# Altium integrated library Microchip Power Mgt MOSFET Driver.IntLib: 445 symbols (part 9 of 10)
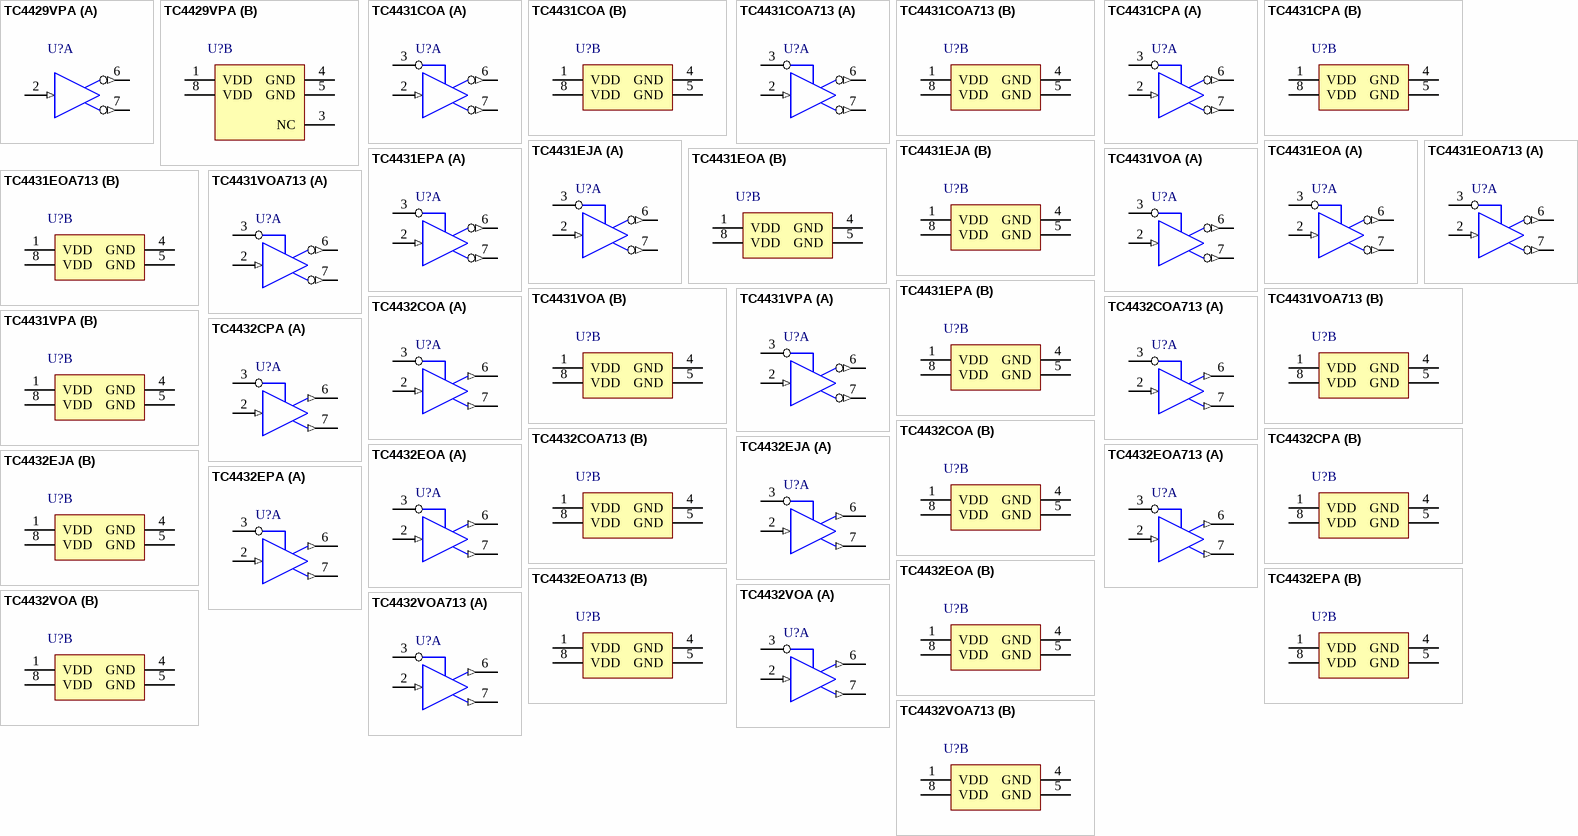
[diagram p36: symbols TC4429VPA to TC4432VOA713]

## TC4429VPA
designator U?
6A High-Speed MOSFET Driver, Inverting, Extended Temperature; Published: 29-Jan-2009; DatasheetVersion: rev C, Aug-2004; PackageVersion: revAW, Oct-2008; PackageReference: PDIP300-PA8; Publisher: Altium Limited; PackageDescription: 8-Lead Plastic Dual In-Line (PA) - 300 mil Body [PDIP]; Code_JEDEC: MS-001-BA; ComponentLink1Description: Manufacturer Link; ComponentLink1URL: http://www.microchip.com; ComponentLink2Description: Datasheet; ComponentLink2URL: http://ww1.microchip.com/downloads/en/DeviceDoc/21419c.pdf; ComponentLink3Description: Packaging Specification; ComponentLink3URL: http://ww1.microchip.com/downloads/en/PackagingSpec/00049AW.pdf
footprint PDIP300-PA8 (DIP, 8-Leads, Row Spacing 7.62mm, Pitch 2.54mm, Body 9.5x6.6mm)
part A pins: 2 IN (in), 6 ~{OUT} (out), 7 ~{OUT} (out)
part B pins: 1 VDD (power), 3 NC, 4 GND (power), 5 GND (power), 8 VDD (power)

## TC4431COA
designator U?
1.5A High-Speed 30V MOSFET Driver, Inverting, Commercial Temperature; Published: 29-Jan-2009; DatasheetVersion: rev D, Dec-2007; PackageVersion: revAW, Oct-2008; PackageReference: SOIC-OA8; Publisher: Altium Limited; PackageDescription: 8-Lead Plastic Small Outline (OA) - Narrow, 3.90mm Body [SOIC]; Code_IPC: SOIC127P600-8; ComponentLink1Description: Manufacturer Link; ComponentLink1URL: http://www.microchip.com; ComponentLink2Description: Datasheet; ComponentLink2URL: http://ww1.microchip.com/downloads/en/DeviceDoc/21424d.pdf; ComponentLink3Description: Packaging Specification; ComponentLink3URL: http://ww1.microchip.com/downloads/en/PackagingSpec/00049AW.pdf
footprint SOIC-OA8_N (SOIC, 8-Leads, Body 4.9x3.9mm, Pitch 1.27mm, IPC Medium Density)
footprint SOIC-OA8_L (SOIC, 8-Leads, Body 4.9x3.9mm, Pitch 1.27mm, IPC High Density)
footprint SOIC-OA8_M (SOIC, 8-Leads, Body 4.9x3.9mm, Pitch 1.27mm, IPC Low Density)
part A pins: 2 IN (in), 3 ~{LOCK DIS}, 6 ~{OUT} (out), 7 ~{OUT} (out)
part B pins: 1 VDD (power), 4 GND (power), 5 GND (power), 8 VDD (power)

## TC4431COA713
designator U?
1.5A High-Speed 30V MOSFET Driver, Inverting, Commercial Temperature, Tape and Reel; Published: 29-Jan-2009; DatasheetVersion: rev D, Dec-2007; PackageVersion: revAW, Oct-2008; PackageReference: SOIC-OA8; Publisher: Altium Limited; PackageDescription: 8-Lead Plastic Small Outline (OA) - Narrow, 3.90mm Body [SOIC]; Code_IPC: SOIC127P600-8; ComponentLink1Description: Manufacturer Link; ComponentLink1URL: http://www.microchip.com; ComponentLink2Description: Datasheet; ComponentLink2URL: http://ww1.microchip.com/downloads/en/DeviceDoc/21424d.pdf; ComponentLink3Description: Packaging Specification; ComponentLink3URL: http://ww1.microchip.com/downloads/en/PackagingSpec/00049AW.pdf
footprint SOIC-OA8_N (SOIC, 8-Leads, Body 4.9x3.9mm, Pitch 1.27mm, IPC Medium Density)
footprint SOIC-OA8_L (SOIC, 8-Leads, Body 4.9x3.9mm, Pitch 1.27mm, IPC High Density)
footprint SOIC-OA8_M (SOIC, 8-Leads, Body 4.9x3.9mm, Pitch 1.27mm, IPC Low Density)
part A pins: 2 IN (in), 3 ~{LOCK DIS}, 6 ~{OUT} (out), 7 ~{OUT} (out)
part B pins: 1 VDD (power), 4 GND (power), 5 GND (power), 8 VDD (power)

## TC4431CPA
designator U?
1.5A High-Speed 30V MOSFET Driver, Inverting, Commercial Temperature; Published: 29-Jan-2009; DatasheetVersion: rev D, Dec-2007; PackageVersion: revAW, Oct-2008; PackageReference: PDIP300-PA8; Publisher: Altium Limited; PackageDescription: 8-Lead Plastic Dual In-Line (PA) - 300 mil Body [PDIP]; Code_JEDEC: MS-001-BA; ComponentLink1Description: Manufacturer Link; ComponentLink1URL: http://www.microchip.com; ComponentLink2Description: Datasheet; ComponentLink2URL: http://ww1.microchip.com/downloads/en/DeviceDoc/21424d.pdf; ComponentLink3Description: Packaging Specification; ComponentLink3URL: http://ww1.microchip.com/downloads/en/PackagingSpec/00049AW.pdf
footprint PDIP300-PA8 (DIP, 8-Leads, Row Spacing 7.62mm, Pitch 2.54mm, Body 9.5x6.6mm)
part A pins: 2 IN (in), 3 ~{LOCK DIS}, 6 ~{OUT} (out), 7 ~{OUT} (out)
part B pins: 1 VDD (power), 4 GND (power), 5 GND (power), 8 VDD (power)

## TC4431EJA
designator U?
1.5A High-Speed 30V MOSFET Driver, Inverting, Industrial Temperature; Published: 29-Jan-2009; DatasheetVersion: rev D, Dec-2007; PackageVersion: revAW, Oct-2008; PackageReference: CERDIP300-JA8; Publisher: Altium Limited; PackageDescription: 8-Lead Ceramic Dual In-Line (JA) - 300mil Body [CERDIP]; ComponentLink1Description: Manufacturer Link; ComponentLink1URL: http://www.microchip.com; ComponentLink2Description: Datasheet; ComponentLink2URL: http://ww1.microchip.com/downloads/en/DeviceDoc/21424d.pdf; ComponentLink3Description: Packaging Specification; ComponentLink3URL: http://ww1.microchip.com/downloads/en/PackagingSpec/00049AW.pdf
footprint CERDIP300-JA8 (DIP, 8-Leads, Row Spacing 7.62mm, Pitch 2.54mm, Body 9.8x6.7mm)
part A pins: 2 IN (in), 3 ~{LOCK DIS}, 6 ~{OUT} (out), 7 ~{OUT} (out)
part B pins: 1 VDD (power), 4 GND (power), 5 GND (power), 8 VDD (power)

## TC4431EOA
designator U?
1.5A High-Speed 30V MOSFET Driver, Inverting, Industrial Temperature; Published: 29-Jan-2009; DatasheetVersion: rev D, Dec-2007; PackageVersion: revAW, Oct-2008; PackageReference: SOIC-OA8; Publisher: Altium Limited; PackageDescription: 8-Lead Plastic Small Outline (OA) - Narrow, 3.90mm Body [SOIC]; Code_IPC: SOIC127P600-8; ComponentLink1Description: Manufacturer Link; ComponentLink1URL: http://www.microchip.com; ComponentLink2Description: Datasheet; ComponentLink2URL: http://ww1.microchip.com/downloads/en/DeviceDoc/21424d.pdf; ComponentLink3Description: Packaging Specification; ComponentLink3URL: http://ww1.microchip.com/downloads/en/PackagingSpec/00049AW.pdf
footprint SOIC-OA8_N (SOIC, 8-Leads, Body 4.9x3.9mm, Pitch 1.27mm, IPC Medium Density)
footprint SOIC-OA8_L (SOIC, 8-Leads, Body 4.9x3.9mm, Pitch 1.27mm, IPC High Density)
footprint SOIC-OA8_M (SOIC, 8-Leads, Body 4.9x3.9mm, Pitch 1.27mm, IPC Low Density)
part A pins: 2 IN (in), 3 ~{LOCK DIS}, 6 ~{OUT} (out), 7 ~{OUT} (out)
part B pins: 1 VDD (power), 4 GND (power), 5 GND (power), 8 VDD (power)

## TC4431EOA713
designator U?
1.5A High-Speed 30V MOSFET Driver, Inverting, Industrial Temperature, Tape and Reel; Published: 29-Jan-2009; DatasheetVersion: rev D, Dec-2007; PackageVersion: revAW, Oct-2008; PackageReference: SOIC-OA8; Publisher: Altium Limited; PackageDescription: 8-Lead Plastic Small Outline (OA) - Narrow, 3.90mm Body [SOIC]; Code_IPC: SOIC127P600-8; ComponentLink1Description: Manufacturer Link; ComponentLink1URL: http://www.microchip.com; ComponentLink2Description: Datasheet; ComponentLink2URL: http://ww1.microchip.com/downloads/en/DeviceDoc/21424d.pdf; ComponentLink3Description: Packaging Specification; ComponentLink3URL: http://ww1.microchip.com/downloads/en/PackagingSpec/00049AW.pdf
footprint SOIC-OA8_N (SOIC, 8-Leads, Body 4.9x3.9mm, Pitch 1.27mm, IPC Medium Density)
footprint SOIC-OA8_L (SOIC, 8-Leads, Body 4.9x3.9mm, Pitch 1.27mm, IPC High Density)
footprint SOIC-OA8_M (SOIC, 8-Leads, Body 4.9x3.9mm, Pitch 1.27mm, IPC Low Density)
part A pins: 2 IN (in), 3 ~{LOCK DIS}, 6 ~{OUT} (out), 7 ~{OUT} (out)
part B pins: 1 VDD (power), 4 GND (power), 5 GND (power), 8 VDD (power)

## TC4431EPA
designator U?
1.5A High-Speed 30V MOSFET Driver, Inverting, Industrial Temperature; Published: 29-Jan-2009; DatasheetVersion: rev D, Dec-2007; PackageVersion: revAW, Oct-2008; PackageReference: PDIP300-PA8; Publisher: Altium Limited; PackageDescription: 8-Lead Plastic Dual In-Line (PA) - 300 mil Body [PDIP]; Code_JEDEC: MS-001-BA; ComponentLink1Description: Manufacturer Link; ComponentLink1URL: http://www.microchip.com; ComponentLink2Description: Datasheet; ComponentLink2URL: http://ww1.microchip.com/downloads/en/DeviceDoc/21424d.pdf; ComponentLink3Description: Packaging Specification; ComponentLink3URL: http://ww1.microchip.com/downloads/en/PackagingSpec/00049AW.pdf
footprint PDIP300-PA8 (DIP, 8-Leads, Row Spacing 7.62mm, Pitch 2.54mm, Body 9.5x6.6mm)
part A pins: 2 IN (in), 3 ~{LOCK DIS}, 6 ~{OUT} (out), 7 ~{OUT} (out)
part B pins: 1 VDD (power), 4 GND (power), 5 GND (power), 8 VDD (power)

## TC4431VOA
designator U?
1.5A High-Speed 30V MOSFET Driver, Inverting, Extended Temperature; Published: 29-Jan-2009; DatasheetVersion: rev D, Dec-2007; PackageVersion: revAW, Oct-2008; PackageReference: SOIC-OA8; Publisher: Altium Limited; PackageDescription: 8-Lead Plastic Small Outline (OA) - Narrow, 3.90mm Body [SOIC]; Code_IPC: SOIC127P600-8; ComponentLink1Description: Manufacturer Link; ComponentLink1URL: http://www.microchip.com; ComponentLink2Description: Datasheet; ComponentLink2URL: http://ww1.microchip.com/downloads/en/DeviceDoc/21424d.pdf; ComponentLink3Description: Packaging Specification; ComponentLink3URL: http://ww1.microchip.com/downloads/en/PackagingSpec/00049AW.pdf
footprint SOIC-OA8_N (SOIC, 8-Leads, Body 4.9x3.9mm, Pitch 1.27mm, IPC Medium Density)
footprint SOIC-OA8_L (SOIC, 8-Leads, Body 4.9x3.9mm, Pitch 1.27mm, IPC High Density)
footprint SOIC-OA8_M (SOIC, 8-Leads, Body 4.9x3.9mm, Pitch 1.27mm, IPC Low Density)
part A pins: 2 IN (in), 3 ~{LOCK DIS}, 6 ~{OUT} (out), 7 ~{OUT} (out)
part B pins: 1 VDD (power), 4 GND (power), 5 GND (power), 8 VDD (power)

## TC4431VOA713
designator U?
1.5A High-Speed 30V MOSFET Driver, Inverting, Extended Temperature, Tape and Reel; Published: 29-Jan-2009; DatasheetVersion: rev D, Dec-2007; PackageVersion: revAW, Oct-2008; PackageReference: SOIC-OA8; Publisher: Altium Limited; PackageDescription: 8-Lead Plastic Small Outline (OA) - Narrow, 3.90mm Body [SOIC]; Code_IPC: SOIC127P600-8; ComponentLink1Description: Manufacturer Link; ComponentLink1URL: http://www.microchip.com; ComponentLink2Description: Datasheet; ComponentLink2URL: http://ww1.microchip.com/downloads/en/DeviceDoc/21424d.pdf; ComponentLink3Description: Packaging Specification; ComponentLink3URL: http://ww1.microchip.com/downloads/en/PackagingSpec/00049AW.pdf
footprint SOIC-OA8_N (SOIC, 8-Leads, Body 4.9x3.9mm, Pitch 1.27mm, IPC Medium Density)
footprint SOIC-OA8_L (SOIC, 8-Leads, Body 4.9x3.9mm, Pitch 1.27mm, IPC High Density)
footprint SOIC-OA8_M (SOIC, 8-Leads, Body 4.9x3.9mm, Pitch 1.27mm, IPC Low Density)
part A pins: 2 IN (in), 3 ~{LOCK DIS}, 6 ~{OUT} (out), 7 ~{OUT} (out)
part B pins: 1 VDD (power), 4 GND (power), 5 GND (power), 8 VDD (power)

## TC4431VPA
designator U?
1.5A High-Speed 30V MOSFET Driver, Inverting, Extended Temperature; Published: 29-Jan-2009; DatasheetVersion: rev D, Dec-2007; PackageVersion: revAW, Oct-2008; PackageReference: PDIP300-PA8; Publisher: Altium Limited; PackageDescription: 8-Lead Plastic Dual In-Line (PA) - 300 mil Body [PDIP]; Code_JEDEC: MS-001-BA; ComponentLink1Description: Manufacturer Link; ComponentLink1URL: http://www.microchip.com; ComponentLink2Description: Datasheet; ComponentLink2URL: http://ww1.microchip.com/downloads/en/DeviceDoc/21424d.pdf; ComponentLink3Description: Packaging Specification; ComponentLink3URL: http://ww1.microchip.com/downloads/en/PackagingSpec/00049AW.pdf
footprint PDIP300-PA8 (DIP, 8-Leads, Row Spacing 7.62mm, Pitch 2.54mm, Body 9.5x6.6mm)
part A pins: 2 IN (in), 3 ~{LOCK DIS}, 6 ~{OUT} (out), 7 ~{OUT} (out)
part B pins: 1 VDD (power), 4 GND (power), 5 GND (power), 8 VDD (power)

## TC4432COA
designator U?
1.5A High-Speed 30V MOSFET Driver, Non-Inverting, Commercial Temperature; Published: 29-Jan-2009; DatasheetVersion: rev D, Dec-2007; PackageVersion: revAW, Oct-2008; PackageReference: SOIC-OA8; Publisher: Altium Limited; PackageDescription: 8-Lead Plastic Small Outline (OA) - Narrow, 3.90mm Body [SOIC]; Code_IPC: SOIC127P600-8; ComponentLink1Description: Manufacturer Link; ComponentLink1URL: http://www.microchip.com; ComponentLink2Description: Datasheet; ComponentLink2URL: http://ww1.microchip.com/downloads/en/DeviceDoc/21424d.pdf; ComponentLink3Description: Packaging Specification; ComponentLink3URL: http://ww1.microchip.com/downloads/en/PackagingSpec/00049AW.pdf
footprint SOIC-OA8_N (SOIC, 8-Leads, Body 4.9x3.9mm, Pitch 1.27mm, IPC Medium Density)
footprint SOIC-OA8_L (SOIC, 8-Leads, Body 4.9x3.9mm, Pitch 1.27mm, IPC High Density)
footprint SOIC-OA8_M (SOIC, 8-Leads, Body 4.9x3.9mm, Pitch 1.27mm, IPC Low Density)
part A pins: 2 IN (in), 3 ~{LOCK DIS}, 6 OUT (out), 7 OUT (out)
part B pins: 1 VDD (power), 4 GND (power), 5 GND (power), 8 VDD (power)

## TC4432COA713
designator U?
1.5A High-Speed 30V MOSFET Driver, Non-Inverting, Commercial Temperature, Tape and Reel; Published: 29-Jan-2009; DatasheetVersion: rev D, Dec-2007; PackageVersion: revAW, Oct-2008; PackageReference: SOIC-OA8; Publisher: Altium Limited; PackageDescription: 8-Lead Plastic Small Outline (OA) - Narrow, 3.90mm Body [SOIC]; Code_IPC: SOIC127P600-8; ComponentLink1Description: Manufacturer Link; ComponentLink1URL: http://www.microchip.com; ComponentLink2Description: Datasheet; ComponentLink2URL: http://ww1.microchip.com/downloads/en/DeviceDoc/21424d.pdf; ComponentLink3Description: Packaging Specification; ComponentLink3URL: http://ww1.microchip.com/downloads/en/PackagingSpec/00049AW.pdf
footprint SOIC-OA8_N (SOIC, 8-Leads, Body 4.9x3.9mm, Pitch 1.27mm, IPC Medium Density)
footprint SOIC-OA8_L (SOIC, 8-Leads, Body 4.9x3.9mm, Pitch 1.27mm, IPC High Density)
footprint SOIC-OA8_M (SOIC, 8-Leads, Body 4.9x3.9mm, Pitch 1.27mm, IPC Low Density)
part A pins: 2 IN (in), 3 ~{LOCK DIS}, 6 OUT (out), 7 OUT (out)
part B pins: 1 VDD (power), 4 GND (power), 5 GND (power), 8 VDD (power)

## TC4432CPA
designator U?
1.5A High-Speed 30V MOSFET Driver, Non-Inverting, Commercial Temperature; Published: 29-Jan-2009; DatasheetVersion: rev D, Dec-2007; PackageVersion: revAW, Oct-2008; PackageReference: PDIP300-PA8; Publisher: Altium Limited; PackageDescription: 8-Lead Plastic Dual In-Line (PA) - 300 mil Body [PDIP]; Code_JEDEC: MS-001-BA; ComponentLink1Description: Manufacturer Link; ComponentLink1URL: http://www.microchip.com; ComponentLink2Description: Datasheet; ComponentLink2URL: http://ww1.microchip.com/downloads/en/DeviceDoc/21424d.pdf; ComponentLink3Description: Packaging Specification; ComponentLink3URL: http://ww1.microchip.com/downloads/en/PackagingSpec/00049AW.pdf
footprint PDIP300-PA8 (DIP, 8-Leads, Row Spacing 7.62mm, Pitch 2.54mm, Body 9.5x6.6mm)
part A pins: 2 IN (in), 3 ~{LOCK DIS}, 6 OUT (out), 7 OUT (out)
part B pins: 1 VDD (power), 4 GND (power), 5 GND (power), 8 VDD (power)

## TC4432EJA
designator U?
1.5A High-Speed 30V MOSFET Driver, Non-Inverting, Industrial Temperature; Published: 29-Jan-2009; DatasheetVersion: rev D, Dec-2007; PackageVersion: revAW, Oct-2008; PackageReference: CERDIP300-JA8; Publisher: Altium Limited; PackageDescription: 8-Lead Ceramic Dual In-Line (JA) - 300mil Body [CERDIP]; ComponentLink1Description: Manufacturer Link; ComponentLink1URL: http://www.microchip.com; ComponentLink2Description: Datasheet; ComponentLink2URL: http://ww1.microchip.com/downloads/en/DeviceDoc/21424d.pdf; ComponentLink3Description: Packaging Specification; ComponentLink3URL: http://ww1.microchip.com/downloads/en/PackagingSpec/00049AW.pdf
footprint CERDIP300-JA8 (DIP, 8-Leads, Row Spacing 7.62mm, Pitch 2.54mm, Body 9.8x6.7mm)
part A pins: 2 IN (in), 3 ~{LOCK DIS}, 6 OUT (out), 7 OUT (out)
part B pins: 1 VDD (power), 4 GND (power), 5 GND (power), 8 VDD (power)

## TC4432EOA
designator U?
1.5A High-Speed 30V MOSFET Driver, Non-Inverting, Industrial Temperature; Published: 29-Jan-2009; DatasheetVersion: rev D, Dec-2007; PackageVersion: revAW, Oct-2008; PackageReference: SOIC-OA8; Publisher: Altium Limited; PackageDescription: 8-Lead Plastic Small Outline (OA) - Narrow, 3.90mm Body [SOIC]; Code_IPC: SOIC127P600-8; ComponentLink1Description: Manufacturer Link; ComponentLink1URL: http://www.microchip.com; ComponentLink2Description: Datasheet; ComponentLink2URL: http://ww1.microchip.com/downloads/en/DeviceDoc/21424d.pdf; ComponentLink3Description: Packaging Specification; ComponentLink3URL: http://ww1.microchip.com/downloads/en/PackagingSpec/00049AW.pdf
footprint SOIC-OA8_N (SOIC, 8-Leads, Body 4.9x3.9mm, Pitch 1.27mm, IPC Medium Density)
footprint SOIC-OA8_L (SOIC, 8-Leads, Body 4.9x3.9mm, Pitch 1.27mm, IPC High Density)
footprint SOIC-OA8_M (SOIC, 8-Leads, Body 4.9x3.9mm, Pitch 1.27mm, IPC Low Density)
part A pins: 2 IN (in), 3 ~{LOCK DIS}, 6 OUT (out), 7 OUT (out)
part B pins: 1 VDD (power), 4 GND (power), 5 GND (power), 8 VDD (power)

## TC4432EOA713
designator U?
1.5A High-Speed 30V MOSFET Driver, Non-Inverting, Industrial Temperature, Tape and Reel; Published: 29-Jan-2009; DatasheetVersion: rev D, Dec-2007; PackageVersion: revAW, Oct-2008; PackageReference: SOIC-OA8; Publisher: Altium Limited; PackageDescription: 8-Lead Plastic Small Outline (OA) - Narrow, 3.90mm Body [SOIC]; Code_IPC: SOIC127P600-8; ComponentLink1Description: Manufacturer Link; ComponentLink1URL: http://www.microchip.com; ComponentLink2Description: Datasheet; ComponentLink2URL: http://ww1.microchip.com/downloads/en/DeviceDoc/21424d.pdf; ComponentLink3Description: Packaging Specification; ComponentLink3URL: http://ww1.microchip.com/downloads/en/PackagingSpec/00049AW.pdf
footprint SOIC-OA8_N (SOIC, 8-Leads, Body 4.9x3.9mm, Pitch 1.27mm, IPC Medium Density)
footprint SOIC-OA8_L (SOIC, 8-Leads, Body 4.9x3.9mm, Pitch 1.27mm, IPC High Density)
footprint SOIC-OA8_M (SOIC, 8-Leads, Body 4.9x3.9mm, Pitch 1.27mm, IPC Low Density)
part A pins: 2 IN (in), 3 ~{LOCK DIS}, 6 OUT (out), 7 OUT (out)
part B pins: 1 VDD (power), 4 GND (power), 5 GND (power), 8 VDD (power)

## TC4432EPA
designator U?
1.5A High-Speed 30V MOSFET Driver, Non-Inverting, Industrial Temperature; Published: 29-Jan-2009; DatasheetVersion: rev D, Dec-2007; PackageVersion: revAW, Oct-2008; PackageReference: PDIP300-PA8; Publisher: Altium Limited; PackageDescription: 8-Lead Plastic Dual In-Line (PA) - 300 mil Body [PDIP]; Code_JEDEC: MS-001-BA; ComponentLink1Description: Manufacturer Link; ComponentLink1URL: http://www.microchip.com; ComponentLink2Description: Datasheet; ComponentLink2URL: http://ww1.microchip.com/downloads/en/DeviceDoc/21424d.pdf; ComponentLink3Description: Packaging Specification; ComponentLink3URL: http://ww1.microchip.com/downloads/en/PackagingSpec/00049AW.pdf
footprint PDIP300-PA8 (DIP, 8-Leads, Row Spacing 7.62mm, Pitch 2.54mm, Body 9.5x6.6mm)
part A pins: 2 IN (in), 3 ~{LOCK DIS}, 6 OUT (out), 7 OUT (out)
part B pins: 1 VDD (power), 4 GND (power), 5 GND (power), 8 VDD (power)

## TC4432VOA
designator U?
1.5A High-Speed 30V MOSFET Driver, Non-Inverting, Extended Temperature; Published: 29-Jan-2009; DatasheetVersion: rev D, Dec-2007; PackageVersion: revAW, Oct-2008; PackageReference: SOIC-OA8; Publisher: Altium Limited; PackageDescription: 8-Lead Plastic Small Outline (OA) - Narrow, 3.90mm Body [SOIC]; Code_IPC: SOIC127P600-8; ComponentLink1Description: Manufacturer Link; ComponentLink1URL: http://www.microchip.com; ComponentLink2Description: Datasheet; ComponentLink2URL: http://ww1.microchip.com/downloads/en/DeviceDoc/21424d.pdf; ComponentLink3Description: Packaging Specification; ComponentLink3URL: http://ww1.microchip.com/downloads/en/PackagingSpec/00049AW.pdf
footprint SOIC-OA8_N (SOIC, 8-Leads, Body 4.9x3.9mm, Pitch 1.27mm, IPC Medium Density)
footprint SOIC-OA8_L (SOIC, 8-Leads, Body 4.9x3.9mm, Pitch 1.27mm, IPC High Density)
footprint SOIC-OA8_M (SOIC, 8-Leads, Body 4.9x3.9mm, Pitch 1.27mm, IPC Low Density)
part A pins: 2 IN (in), 3 ~{LOCK DIS}, 6 OUT (out), 7 OUT (out)
part B pins: 1 VDD (power), 4 GND (power), 5 GND (power), 8 VDD (power)

## TC4432VOA713
designator U?
1.5A High-Speed 30V MOSFET Driver, Non-Inverting, Extended Temperature, Tape and Reel; Published: 29-Jan-2009; DatasheetVersion: rev D, Dec-2007; PackageVersion: revAW, Oct-2008; PackageReference: SOIC-OA8; Publisher: Altium Limited; PackageDescription: 8-Lead Plastic Small Outline (OA) - Narrow, 3.90mm Body [SOIC]; Code_IPC: SOIC127P600-8; ComponentLink1Description: Manufacturer Link; ComponentLink1URL: http://www.microchip.com; ComponentLink2Description: Datasheet; ComponentLink2URL: http://ww1.microchip.com/downloads/en/DeviceDoc/21424d.pdf; ComponentLink3Description: Packaging Specification; ComponentLink3URL: http://ww1.microchip.com/downloads/en/PackagingSpec/00049AW.pdf
footprint SOIC-OA8_N (SOIC, 8-Leads, Body 4.9x3.9mm, Pitch 1.27mm, IPC Medium Density)
footprint SOIC-OA8_L (SOIC, 8-Leads, Body 4.9x3.9mm, Pitch 1.27mm, IPC High Density)
footprint SOIC-OA8_M (SOIC, 8-Leads, Body 4.9x3.9mm, Pitch 1.27mm, IPC Low Density)
part A pins: 2 IN (in), 3 ~{LOCK DIS}, 6 OUT (out), 7 OUT (out)
part B pins: 1 VDD (power), 4 GND (power), 5 GND (power), 8 VDD (power)

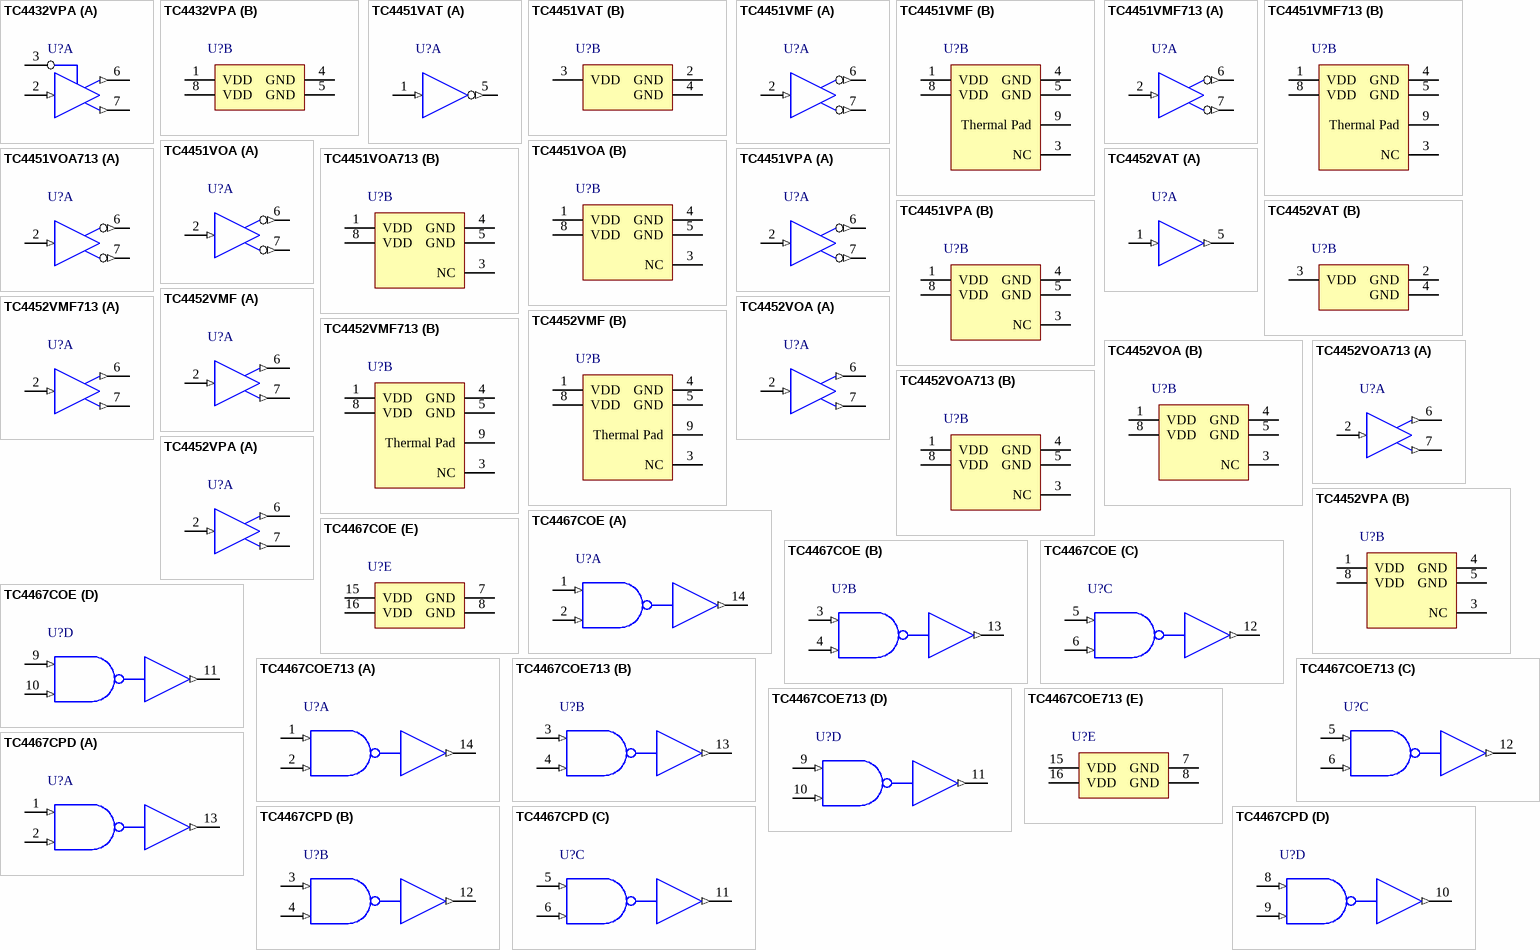
[diagram p26: symbols TC4432VPA to TC4467CPD]

## TC4432VPA
designator U?
1.5A High-Speed 30V MOSFET Driver, Non-Inverting, Extended Temperature; Published: 29-Jan-2009; DatasheetVersion: rev D, Dec-2007; PackageVersion: revAW, Oct-2008; PackageReference: PDIP300-PA8; Publisher: Altium Limited; PackageDescription: 8-Lead Plastic Dual In-Line (PA) - 300 mil Body [PDIP]; Code_JEDEC: MS-001-BA; ComponentLink1Description: Manufacturer Link; ComponentLink1URL: http://www.microchip.com; ComponentLink2Description: Datasheet; ComponentLink2URL: http://ww1.microchip.com/downloads/en/DeviceDoc/21424d.pdf; ComponentLink3Description: Packaging Specification; ComponentLink3URL: http://ww1.microchip.com/downloads/en/PackagingSpec/00049AW.pdf
footprint PDIP300-PA8 (DIP, 8-Leads, Row Spacing 7.62mm, Pitch 2.54mm, Body 9.5x6.6mm)
part A pins: 2 IN (in), 3 ~{LOCK DIS}, 6 OUT (out), 7 OUT (out)
part B pins: 1 VDD (power), 4 GND (power), 5 GND (power), 8 VDD (power)

## TC4451VAT
designator U?
12A High-Speed MOSFET Driver, Inverting, Extended Temperature; Published: 29-Jan-2009; DatasheetVersion: revA, Feb-2006; PackageVersion: revAW, Oct-2008; PackageReference: TO-220-AT5; Publisher: Altium Limited; PackageDescription: 5-Lead Plastic Transistor Outline (AT) [TO-220]; ComponentLink1Description: Manufacturer Link; ComponentLink1URL: http://www.microchip.com; ComponentLink2Description: Datasheet; ComponentLink2URL: http://ww1.microchip.com/downloads/en/DeviceDoc/21987a.pdf; ComponentLink3Description: Packaging Specification; ComponentLink3URL: http://ww1.microchip.com/downloads/en/PackagingSpec/00049AW.pdf
footprint TO-220-AT5 (TO, Thru-Hole, Vertical, Heatsink Mounted; 5 In-Line Leads; Pitch 1.70 mm)
part A pins: 1 IN (in), 5 ~{OUT} (out)
part B pins: 2 GND (power), 3 VDD (power), 4 GND (power)

## TC4451VMF
designator U?
12A High-Speed MOSFET Drivers, Inverting, Extended Temperature; Published: 29-Jan-2009; DatasheetVersion: revA, Feb-2006; PackageVersion: revAW, Oct-2008; PackageReference: DFN-MF8; Publisher: Altium Limited; PackageDescription: 8-Lead Plastic Dual Flat, No Lead Package (MF) - 3x3x0.9mm Body [DFN]; ComponentLink1Description: Manufacturer Link; ComponentLink1URL: http://www.microchip.com; ComponentLink2Description: Datasheet; ComponentLink2URL: http://ww1.microchip.com/downloads/en/DeviceDoc/21987a.pdf; ComponentLink3Description: Packaging Specification; ComponentLink3URL: http://ww1.microchip.com/downloads/en/PackagingSpec/00049AW.pdf
footprint DFN-MF8 (SON, 8-Leads, Body 3x3mm, Pitch 0.65mm, Microchip Recommended)
part A pins: 2 IN (in), 6 ~{OUT} (out), 7 ~{OUT} (out)
part B pins: 1 VDD (power), 3 NC, 4 GND (power), 5 GND (power), 8 VDD (power), 9 Thermal Pad

## TC4451VMF713
designator U?
12A High-Speed MOSFET Drivers, Inverting, Extended Temperature, Tape and Reel; Published: 29-Jan-2009; DatasheetVersion: revA, Feb-2006; PackageVersion: revAW, Oct-2008; PackageReference: DFN-MF8; Publisher: Altium Limited; PackageDescription: 8-Lead Plastic Dual Flat, No Lead Package (MF) - 3x3x0.9mm Body [DFN]; ComponentLink1Description: Manufacturer Link; ComponentLink1URL: http://www.microchip.com; ComponentLink2Description: Datasheet; ComponentLink2URL: http://ww1.microchip.com/downloads/en/DeviceDoc/21987a.pdf; ComponentLink3Description: Packaging Specification; ComponentLink3URL: http://ww1.microchip.com/downloads/en/PackagingSpec/00049AW.pdf
footprint DFN-MF8 (SON, 8-Leads, Body 3x3mm, Pitch 0.65mm, Microchip Recommended)
part A pins: 2 IN (in), 6 ~{OUT} (out), 7 ~{OUT} (out)
part B pins: 1 VDD (power), 3 NC, 4 GND (power), 5 GND (power), 8 VDD (power), 9 Thermal Pad

## TC4451VOA
designator U?
12A High-Speed MOSFET Drivers, Inverting, Extended Temperature; Published: 29-Jan-2009; DatasheetVersion: revA, Feb-2006; PackageVersion: revAW, Oct-2008; PackageReference: SOIC-OA8; Publisher: Altium Limited; PackageDescription: 8-Lead Plastic Small Outline (OA) - Narrow, 3.90mm Body [SOIC]; Code_IPC: SOIC127P600-8; ComponentLink1Description: Manufacturer Link; ComponentLink1URL: http://www.microchip.com; ComponentLink2Description: Datasheet; ComponentLink2URL: http://ww1.microchip.com/downloads/en/DeviceDoc/21987a.pdf; ComponentLink3Description: Packaging Specification; ComponentLink3URL: http://ww1.microchip.com/downloads/en/PackagingSpec/00049AW.pdf
footprint SOIC-OA8_N (SOIC, 8-Leads, Body 4.9x3.9mm, Pitch 1.27mm, IPC Medium Density)
footprint SOIC-OA8_L (SOIC, 8-Leads, Body 4.9x3.9mm, Pitch 1.27mm, IPC High Density)
footprint SOIC-OA8_M (SOIC, 8-Leads, Body 4.9x3.9mm, Pitch 1.27mm, IPC Low Density)
part A pins: 2 IN (in), 6 ~{OUT} (out), 7 ~{OUT} (out)
part B pins: 1 VDD (power), 3 NC, 4 GND (power), 5 GND (power), 8 VDD (power)

## TC4451VOA713
designator U?
12A High-Speed MOSFET Drivers, Inverting, Extended Temperature, Tape and Reel; Published: 29-Jan-2009; DatasheetVersion: revA, Feb-2006; PackageVersion: revAW, Oct-2008; PackageReference: SOIC-OA8; Publisher: Altium Limited; PackageDescription: 8-Lead Plastic Small Outline (OA) - Narrow, 3.90mm Body [SOIC]; Code_IPC: SOIC127P600-8; ComponentLink1Description: Manufacturer Link; ComponentLink1URL: http://www.microchip.com; ComponentLink2Description: Datasheet; ComponentLink2URL: http://ww1.microchip.com/downloads/en/DeviceDoc/21987a.pdf; ComponentLink3Description: Packaging Specification; ComponentLink3URL: http://ww1.microchip.com/downloads/en/PackagingSpec/00049AW.pdf
footprint SOIC-OA8_N (SOIC, 8-Leads, Body 4.9x3.9mm, Pitch 1.27mm, IPC Medium Density)
footprint SOIC-OA8_L (SOIC, 8-Leads, Body 4.9x3.9mm, Pitch 1.27mm, IPC High Density)
footprint SOIC-OA8_M (SOIC, 8-Leads, Body 4.9x3.9mm, Pitch 1.27mm, IPC Low Density)
part A pins: 2 IN (in), 6 ~{OUT} (out), 7 ~{OUT} (out)
part B pins: 1 VDD (power), 3 NC, 4 GND (power), 5 GND (power), 8 VDD (power)

## TC4451VPA
designator U?
12A High-Speed MOSFET Drivers, Inverting, Extended Temperature; Published: 29-Jan-2009; DatasheetVersion: revA, Feb-2006; PackageVersion: revAW, Oct-2008; PackageReference: PDIP300-PA8; Publisher: Altium Limited; PackageDescription: 8-Lead Plastic Dual In-Line (PA) - 300 mil Body [PDIP]; Code_JEDEC: MS-001-BA; ComponentLink1Description: Manufacturer Link; ComponentLink1URL: http://www.microchip.com; ComponentLink2Description: Datasheet; ComponentLink2URL: http://ww1.microchip.com/downloads/en/DeviceDoc/21987a.pdf; ComponentLink3Description: Packaging Specification; ComponentLink3URL: http://ww1.microchip.com/downloads/en/PackagingSpec/00049AW.pdf
footprint PDIP300-PA8 (DIP, 8-Leads, Row Spacing 7.62mm, Pitch 2.54mm, Body 9.5x6.6mm)
part A pins: 2 IN (in), 6 ~{OUT} (out), 7 ~{OUT} (out)
part B pins: 1 VDD (power), 3 NC, 4 GND (power), 5 GND (power), 8 VDD (power)

## TC4452VAT
designator U?
12A High-Speed MOSFET Driver, Non Inverting, Extended Temperature; Published: 29-Jan-2009; DatasheetVersion: revA, Feb-2006; PackageVersion: revAW, Oct-2008; PackageReference: TO-220-AT5; Publisher: Altium Limited; PackageDescription: 5-Lead Plastic Transistor Outline (AT) [TO-220]; ComponentLink1Description: Manufacturer Link; ComponentLink1URL: http://www.microchip.com; ComponentLink2Description: Datasheet; ComponentLink2URL: http://ww1.microchip.com/downloads/en/DeviceDoc/21987a.pdf; ComponentLink3Description: Packaging Specification; ComponentLink3URL: http://ww1.microchip.com/downloads/en/PackagingSpec/00049AW.pdf
footprint TO-220-AT5 (TO, Thru-Hole, Vertical, Heatsink Mounted; 5 In-Line Leads; Pitch 1.70 mm)
part A pins: 1 IN (in), 5 OUT (out)
part B pins: 2 GND (power), 3 VDD (power), 4 GND (power)

## TC4452VMF
designator U?
12A High-Speed MOSFET Drivers, Non Inverting, Extended Temperature; Published: 29-Jan-2009; DatasheetVersion: revA, Feb-2006; PackageVersion: revAW, Oct-2008; PackageReference: DFN-MF8; Publisher: Altium Limited; PackageDescription: 8-Lead Plastic Dual Flat, No Lead Package (MF) - 3x3x0.9mm Body [DFN]; ComponentLink1Description: Manufacturer Link; ComponentLink1URL: http://www.microchip.com; ComponentLink2Description: Datasheet; ComponentLink2URL: http://ww1.microchip.com/downloads/en/DeviceDoc/21987a.pdf; ComponentLink3Description: Packaging Specification; ComponentLink3URL: http://ww1.microchip.com/downloads/en/PackagingSpec/00049AW.pdf
footprint DFN-MF8 (SON, 8-Leads, Body 3x3mm, Pitch 0.65mm, Microchip Recommended)
part A pins: 2 IN (in), 6 OUT (out), 7 OUT (out)
part B pins: 1 VDD (power), 3 NC, 4 GND (power), 5 GND (power), 8 VDD (power), 9 Thermal Pad

## TC4452VMF713
designator U?
12A High-Speed MOSFET Drivers, Non Inverting, Extended Temperature, Tape and Reel; Published: 29-Jan-2009; DatasheetVersion: revA, Feb-2006; PackageVersion: revAW, Oct-2008; PackageReference: DFN-MF8; Publisher: Altium Limited; PackageDescription: 8-Lead Plastic Dual Flat, No Lead Package (MF) - 3x3x0.9mm Body [DFN]; ComponentLink1Description: Manufacturer Link; ComponentLink1URL: http://www.microchip.com; ComponentLink2Description: Datasheet; ComponentLink2URL: http://ww1.microchip.com/downloads/en/DeviceDoc/21987a.pdf; ComponentLink3Description: Packaging Specification; ComponentLink3URL: http://ww1.microchip.com/downloads/en/PackagingSpec/00049AW.pdf
footprint DFN-MF8 (SON, 8-Leads, Body 3x3mm, Pitch 0.65mm, Microchip Recommended)
part A pins: 2 IN (in), 6 OUT (out), 7 OUT (out)
part B pins: 1 VDD (power), 3 NC, 4 GND (power), 5 GND (power), 8 VDD (power), 9 Thermal Pad

## TC4452VOA
designator U?
12A High-Speed MOSFET Drivers, Non Inverting, Extended Temperature; Published: 29-Jan-2009; DatasheetVersion: revA, Feb-2006; PackageVersion: revAW, Oct-2008; PackageReference: SOIC-OA8; Publisher: Altium Limited; PackageDescription: 8-Lead Plastic Small Outline (OA) - Narrow, 3.90mm Body [SOIC]; Code_IPC: SOIC127P600-8; ComponentLink1Description: Manufacturer Link; ComponentLink1URL: http://www.microchip.com; ComponentLink2Description: Datasheet; ComponentLink2URL: http://ww1.microchip.com/downloads/en/DeviceDoc/21987a.pdf; ComponentLink3Description: Packaging Specification; ComponentLink3URL: http://ww1.microchip.com/downloads/en/PackagingSpec/00049AW.pdf
footprint SOIC-OA8_N (SOIC, 8-Leads, Body 4.9x3.9mm, Pitch 1.27mm, IPC Medium Density)
footprint SOIC-OA8_L (SOIC, 8-Leads, Body 4.9x3.9mm, Pitch 1.27mm, IPC High Density)
footprint SOIC-OA8_M (SOIC, 8-Leads, Body 4.9x3.9mm, Pitch 1.27mm, IPC Low Density)
part A pins: 2 IN (in), 6 OUT (out), 7 OUT (out)
part B pins: 1 VDD (power), 3 NC, 4 GND (power), 5 GND (power), 8 VDD (power)

## TC4452VOA713
designator U?
12A High-Speed MOSFET Drivers, Non Inverting, Extended Temperature, Tape and Reel; Published: 29-Jan-2009; DatasheetVersion: revA, Feb-2006; PackageVersion: revAW, Oct-2008; PackageReference: SOIC-OA8; Publisher: Altium Limited; PackageDescription: 8-Lead Plastic Small Outline (OA) - Narrow, 3.90mm Body [SOIC]; Code_IPC: SOIC127P600-8; ComponentLink1Description: Manufacturer Link; ComponentLink1URL: http://www.microchip.com; ComponentLink2Description: Datasheet; ComponentLink2URL: http://ww1.microchip.com/downloads/en/DeviceDoc/21987a.pdf; ComponentLink3Description: Packaging Specification; ComponentLink3URL: http://ww1.microchip.com/downloads/en/PackagingSpec/00049AW.pdf
footprint SOIC-OA8_N (SOIC, 8-Leads, Body 4.9x3.9mm, Pitch 1.27mm, IPC Medium Density)
footprint SOIC-OA8_L (SOIC, 8-Leads, Body 4.9x3.9mm, Pitch 1.27mm, IPC High Density)
footprint SOIC-OA8_M (SOIC, 8-Leads, Body 4.9x3.9mm, Pitch 1.27mm, IPC Low Density)
part A pins: 2 IN (in), 6 OUT (out), 7 OUT (out)
part B pins: 1 VDD (power), 3 NC, 4 GND (power), 5 GND (power), 8 VDD (power)

## TC4452VPA
designator U?
12A High-Speed MOSFET Drivers, Non Inverting, Extended Temperature; Published: 29-Jan-2009; DatasheetVersion: revA, Feb-2006; PackageVersion: revAW, Oct-2008; PackageReference: PDIP300-PA8; Publisher: Altium Limited; PackageDescription: 8-Lead Plastic Dual In-Line (PA) - 300 mil Body [PDIP]; Code_JEDEC: MS-001-BA; ComponentLink1Description: Manufacturer Link; ComponentLink1URL: http://www.microchip.com; ComponentLink2Description: Datasheet; ComponentLink2URL: http://ww1.microchip.com/downloads/en/DeviceDoc/21987a.pdf; ComponentLink3Description: Packaging Specification; ComponentLink3URL: http://ww1.microchip.com/downloads/en/PackagingSpec/00049AW.pdf
footprint PDIP300-PA8 (DIP, 8-Leads, Row Spacing 7.62mm, Pitch 2.54mm, Body 9.5x6.6mm)
part A pins: 2 IN (in), 6 OUT (out), 7 OUT (out)
part B pins: 1 VDD (power), 3 NC, 4 GND (power), 5 GND (power), 8 VDD (power)

## TC4467COE
designator U?
1.2A Quad MOSFET Driver, NAND, Commercial Temperature; Published: 29-Jan-2009; DatasheetVersion: rev B, Feb-2003; PackageVersion: revAW, Oct-2008; PackageReference: SOIC-OE16; Publisher: Altium Limited; PackageDescription: 16-Lead Plastic Small Outline (OE) - Wide 7.50mm Body [SOIC]; Code_JEDEC: MS-013-AA; Code_IPC: SOIC127P1030-16; ComponentLink1Description: Manufacturer Link; ComponentLink1URL: http://www.microchip.com; ComponentLink2Description: Datasheet; ComponentLink2URL: http://ww1.microchip.com/downloads/en/DeviceDoc/21425b.pdf; ComponentLink3Description: Packaging Specification; ComponentLink3URL: http://ww1.microchip.com/downloads/en/PackagingSpec/00049AW.pdf
footprint SOIC-OE16_N (SOIC, 16-Leads, Body 10.3x7.5mm, Pitch 1.27mm, IPC Medium Density)
footprint SOIC-OE16_L (SOIC, 16-Leads, Body 10.3x7.5mm, Pitch 1.27mm, IPC High Density)
footprint SOIC-OE16_M (SOIC, 16-Leads, Body 10.3x7.5mm, Pitch 1.27mm, IPC Low Density)
part A pins: 1 1A (in), 2 1B (in), 14 1Y (out)
part B pins: 3 2A (in), 4 2B (in), 13 2Y (out)
part C pins: 5 3A (in), 6 3B (in), 12 3Y (out)
part D pins: 9 4A (in), 10 4B (in), 11 4Y (out)
part E pins: 7 GND (power), 8 GND (power), 15 VDD (power), 16 VDD (power)

## TC4467COE713
designator U?
1.2A Quad MOSFET Driver, NAND, Commercial Temperature, Tape and Reel; Published: 29-Jan-2009; DatasheetVersion: rev B, Feb-2003; PackageVersion: revAW, Oct-2008; PackageReference: SOIC-OE16; Publisher: Altium Limited; PackageDescription: 16-Lead Plastic Small Outline (OE) - Wide 7.50mm Body [SOIC]; Code_JEDEC: MS-013-AA; Code_IPC: SOIC127P1030-16; ComponentLink1Description: Manufacturer Link; ComponentLink1URL: http://www.microchip.com; ComponentLink2Description: Datasheet; ComponentLink2URL: http://ww1.microchip.com/downloads/en/DeviceDoc/21425b.pdf; ComponentLink3Description: Packaging Specification; ComponentLink3URL: http://ww1.microchip.com/downloads/en/PackagingSpec/00049AW.pdf
footprint SOIC-OE16_N (SOIC, 16-Leads, Body 10.3x7.5mm, Pitch 1.27mm, IPC Medium Density)
footprint SOIC-OE16_L (SOIC, 16-Leads, Body 10.3x7.5mm, Pitch 1.27mm, IPC High Density)
footprint SOIC-OE16_M (SOIC, 16-Leads, Body 10.3x7.5mm, Pitch 1.27mm, IPC Low Density)
part A pins: 1 1A (in), 2 1B (in), 14 1Y (out)
part B pins: 3 2A (in), 4 2B (in), 13 2Y (out)
part C pins: 5 3A (in), 6 3B (in), 12 3Y (out)
part D pins: 9 4A (in), 10 4B (in), 11 4Y (out)
part E pins: 7 GND (power), 8 GND (power), 15 VDD (power), 16 VDD (power)

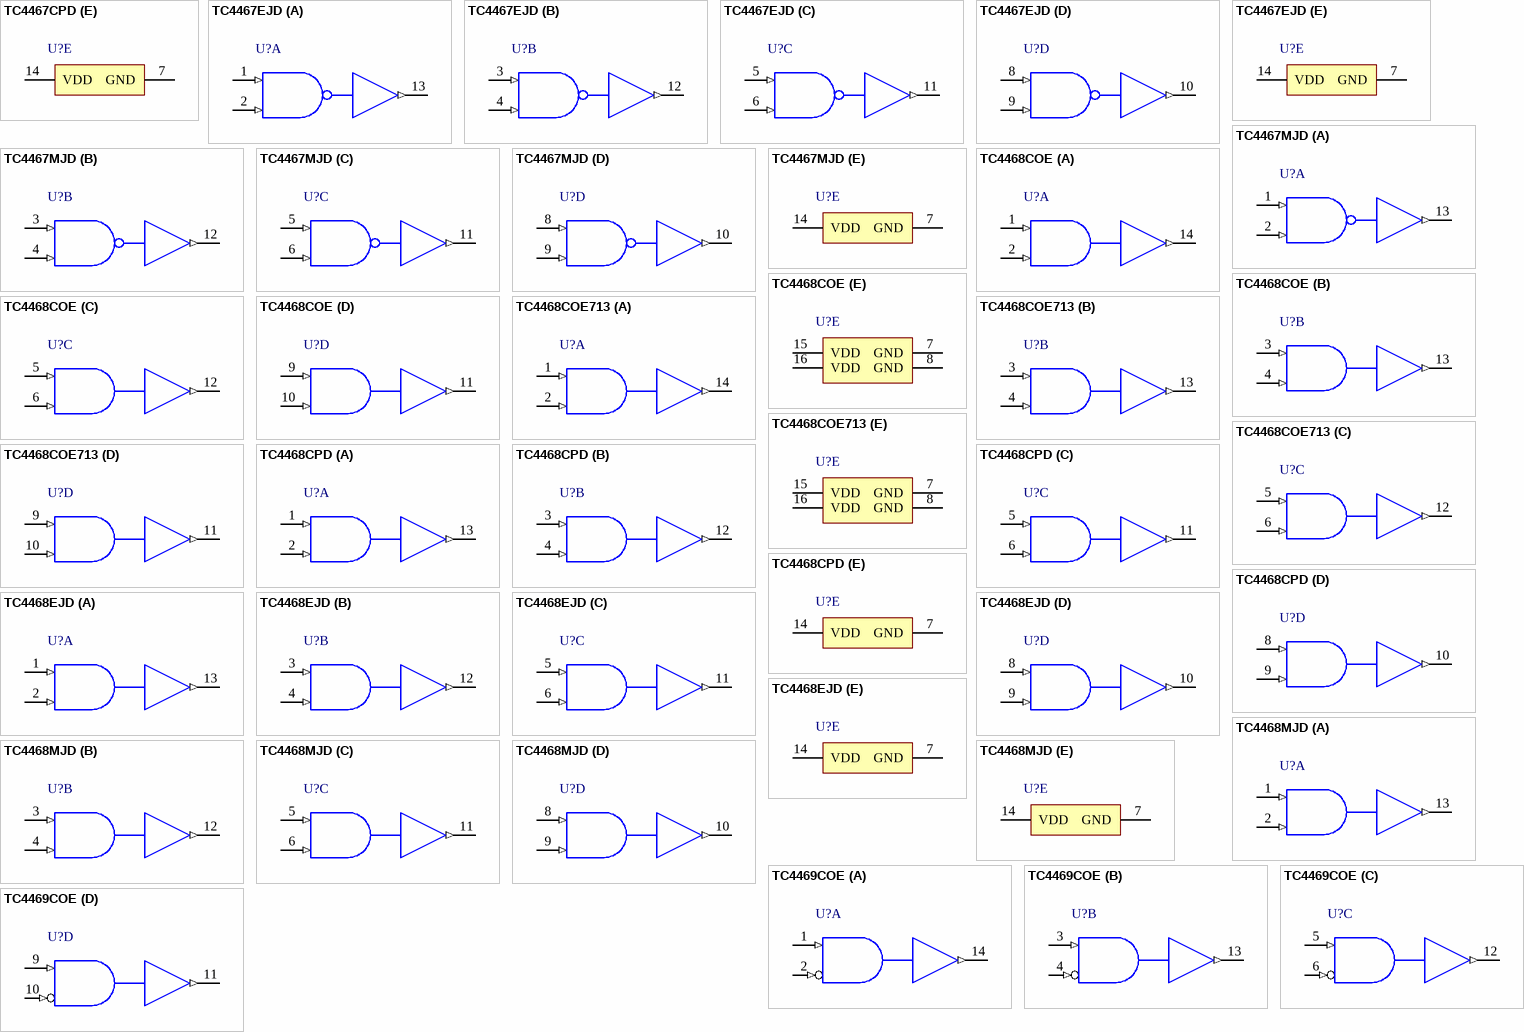
[diagram p27: symbols TC4467CPD to TC4469COE]

## TC4467CPD
designator U?
1.2A Quad MOSFET Driver, NAND, Commercial Temperature; Published: 29-Jan-2009; DatasheetVersion: rev B, Feb-2003; PackageVersion: revAW, Oct-2008; PackageReference: PDIP300-PD14; Publisher: Altium Limited; PackageDescription: 14-Lead Plastic Dual In-Line (PD) - 300 mil Body [PDIP]; Code_JEDEC: MS-001-AA; ComponentLink1Description: Manufacturer Link; ComponentLink1URL: http://www.microchip.com; ComponentLink2Description: Datasheet; ComponentLink2URL: http://ww1.microchip.com/downloads/en/DeviceDoc/21425b.pdf; ComponentLink3Description: Packaging Specification; ComponentLink3URL: http://ww1.microchip.com/downloads/en/PackagingSpec/00049AW.pdf
footprint PDIP300-PD14 (DIP, 14-Leads, Row Spacing 7.62mm, Pitch 2.54mm, Body 19.2x6.6mm)
part A pins: 1 1A (in), 2 1B (in), 13 1Y (out)
part B pins: 3 2A (in), 4 2B (in), 12 2Y (out)
part C pins: 5 3A (in), 6 3B (in), 11 3Y (out)
part D pins: 8 4A (in), 9 4B (in), 10 4Y (out)
part E pins: 7 GND (power), 14 VDD (power)

## TC4467EJD
designator U?
1.2A Quad MOSFET Driver, NAND, Industrial Temperature; Published: 29-Jan-2009; DatasheetVersion: rev B, Feb-2003; PackageVersion: revAW, Oct-2008; PackageReference: CERDIP300-JD14; Publisher: Altium Limited; PackageDescription: 14-Lead Ceramic Dual In-Line (JD) - 300mil Body [CERDIP]; ComponentLink1Description: Manufacturer Link; ComponentLink1URL: http://www.microchip.com; ComponentLink2Description: Datasheet; ComponentLink2URL: http://ww1.microchip.com/downloads/en/DeviceDoc/21425b.pdf; ComponentLink3Description: Packaging Specification; ComponentLink3URL: http://ww1.microchip.com/downloads/en/PackagingSpec/00049AW.pdf
footprint CERDIP300-JD14 (DIP, 14-Leads, Row Spacing 7.62mm, Pitch 2.54mm, Body 19.3x6.7mm)
part A pins: 1 1A (in), 2 1B (in), 13 1Y (out)
part B pins: 3 2A (in), 4 2B (in), 12 2Y (out)
part C pins: 5 3A (in), 6 3B (in), 11 3Y (out)
part D pins: 8 4A (in), 9 4B (in), 10 4Y (out)
part E pins: 7 GND (power), 14 VDD (power)

## TC4467MJD
designator U?
1.2A Quad MOSFET Driver, NAND, -55C to +125C Temperature; Published: 29-Jan-2009; DatasheetVersion: rev B, Feb-2003; PackageVersion: revAW, Oct-2008; PackageReference: CERDIP300-JD14; Publisher: Altium Limited; PackageDescription: 14-Lead Ceramic Dual In-Line (JD) - 300mil Body [CERDIP]; ComponentLink1Description: Manufacturer Link; ComponentLink1URL: http://www.microchip.com; ComponentLink2Description: Datasheet; ComponentLink2URL: http://ww1.microchip.com/downloads/en/DeviceDoc/21425b.pdf; ComponentLink3Description: Packaging Specification; ComponentLink3URL: http://ww1.microchip.com/downloads/en/PackagingSpec/00049AW.pdf
footprint CERDIP300-JD14 (DIP, 14-Leads, Row Spacing 7.62mm, Pitch 2.54mm, Body 19.3x6.7mm)
part A pins: 1 1A (in), 2 1B (in), 13 1Y (out)
part B pins: 3 2A (in), 4 2B (in), 12 2Y (out)
part C pins: 5 3A (in), 6 3B (in), 11 3Y (out)
part D pins: 8 4A (in), 9 4B (in), 10 4Y (out)
part E pins: 7 GND (power), 14 VDD (power)

## TC4468COE
designator U?
1.2A Quad MOSFET Driver, AND, Commercial Temperature; Published: 29-Jan-2009; DatasheetVersion: rev B, Feb-2003; PackageVersion: revAW, Oct-2008; PackageReference: SOIC-OE16; Publisher: Altium Limited; PackageDescription: 16-Lead Plastic Small Outline (OE) - Wide 7.50mm Body [SOIC]; Code_JEDEC: MS-013-AA; Code_IPC: SOIC127P1030-16; ComponentLink1Description: Manufacturer Link; ComponentLink1URL: http://www.microchip.com; ComponentLink2Description: Datasheet; ComponentLink2URL: http://ww1.microchip.com/downloads/en/DeviceDoc/21425b.pdf; ComponentLink3Description: Packaging Specification; ComponentLink3URL: http://ww1.microchip.com/downloads/en/PackagingSpec/00049AW.pdf
footprint SOIC-OE16_N (SOIC, 16-Leads, Body 10.3x7.5mm, Pitch 1.27mm, IPC Medium Density)
footprint SOIC-OE16_L (SOIC, 16-Leads, Body 10.3x7.5mm, Pitch 1.27mm, IPC High Density)
footprint SOIC-OE16_M (SOIC, 16-Leads, Body 10.3x7.5mm, Pitch 1.27mm, IPC Low Density)
part A pins: 1 1A (in), 2 1B (in), 14 1Y (out)
part B pins: 3 2A (in), 4 2B (in), 13 2Y (out)
part C pins: 5 3A (in), 6 3B (in), 12 3Y (out)
part D pins: 9 4A (in), 10 4B (in), 11 4Y (out)
part E pins: 7 GND (power), 8 GND (power), 15 VDD (power), 16 VDD (power)

## TC4468COE713
designator U?
1.2A Quad MOSFET Driver, AND, Commercial Temperature, Tape and Reel; Published: 29-Jan-2009; DatasheetVersion: rev B, Feb-2003; PackageVersion: revAW, Oct-2008; PackageReference: SOIC-OE16; Publisher: Altium Limited; PackageDescription: 16-Lead Plastic Small Outline (OE) - Wide 7.50mm Body [SOIC]; Code_JEDEC: MS-013-AA; Code_IPC: SOIC127P1030-16; ComponentLink1Description: Manufacturer Link; ComponentLink1URL: http://www.microchip.com; ComponentLink2Description: Datasheet; ComponentLink2URL: http://ww1.microchip.com/downloads/en/DeviceDoc/21425b.pdf; ComponentLink3Description: Packaging Specification; ComponentLink3URL: http://ww1.microchip.com/downloads/en/PackagingSpec/00049AW.pdf
footprint SOIC-OE16_N (SOIC, 16-Leads, Body 10.3x7.5mm, Pitch 1.27mm, IPC Medium Density)
footprint SOIC-OE16_L (SOIC, 16-Leads, Body 10.3x7.5mm, Pitch 1.27mm, IPC High Density)
footprint SOIC-OE16_M (SOIC, 16-Leads, Body 10.3x7.5mm, Pitch 1.27mm, IPC Low Density)
part A pins: 1 1A (in), 2 1B (in), 14 1Y (out)
part B pins: 3 2A (in), 4 2B (in), 13 2Y (out)
part C pins: 5 3A (in), 6 3B (in), 12 3Y (out)
part D pins: 9 4A (in), 10 4B (in), 11 4Y (out)
part E pins: 7 GND (power), 8 GND (power), 15 VDD (power), 16 VDD (power)

## TC4468CPD
designator U?
1.2A Quad MOSFET Driver, AND, Commercial Temperature; Published: 29-Jan-2009; DatasheetVersion: rev B, Feb-2003; PackageVersion: revAW, Oct-2008; PackageReference: PDIP300-PD14; Publisher: Altium Limited; PackageDescription: 14-Lead Plastic Dual In-Line (PD) - 300 mil Body [PDIP]; Code_JEDEC: MS-001-AA; ComponentLink1Description: Manufacturer Link; ComponentLink1URL: http://www.microchip.com; ComponentLink2Description: Datasheet; ComponentLink2URL: http://ww1.microchip.com/downloads/en/DeviceDoc/21425b.pdf; ComponentLink3Description: Packaging Specification; ComponentLink3URL: http://ww1.microchip.com/downloads/en/PackagingSpec/00049AW.pdf
footprint PDIP300-PD14 (DIP, 14-Leads, Row Spacing 7.62mm, Pitch 2.54mm, Body 19.2x6.6mm)
part A pins: 1 1A (in), 2 1B (in), 13 1Y (out)
part B pins: 3 2A (in), 4 2B (in), 12 2Y (out)
part C pins: 5 3A (in), 6 3B (in), 11 3Y (out)
part D pins: 8 4A (in), 9 4B (in), 10 4Y (out)
part E pins: 7 GND (power), 14 VDD (power)

## TC4468EJD
designator U?
1.2A Quad MOSFET Driver, AND, Industrial Temperature; Published: 29-Jan-2009; DatasheetVersion: rev B, Feb-2003; PackageVersion: revAW, Oct-2008; PackageReference: CERDIP300-JD14; Publisher: Altium Limited; PackageDescription: 14-Lead Ceramic Dual In-Line (JD) - 300mil Body [CERDIP]; ComponentLink1Description: Manufacturer Link; ComponentLink1URL: http://www.microchip.com; ComponentLink2Description: Datasheet; ComponentLink2URL: http://ww1.microchip.com/downloads/en/DeviceDoc/21425b.pdf; ComponentLink3Description: Packaging Specification; ComponentLink3URL: http://ww1.microchip.com/downloads/en/PackagingSpec/00049AW.pdf
footprint CERDIP300-JD14 (DIP, 14-Leads, Row Spacing 7.62mm, Pitch 2.54mm, Body 19.3x6.7mm)
part A pins: 1 1A (in), 2 1B (in), 13 1Y (out)
part B pins: 3 2A (in), 4 2B (in), 12 2Y (out)
part C pins: 5 3A (in), 6 3B (in), 11 3Y (out)
part D pins: 8 4A (in), 9 4B (in), 10 4Y (out)
part E pins: 7 GND (power), 14 VDD (power)

## TC4468MJD
designator U?
1.2A Quad MOSFET Driver, AND, -55C to +125C Temperature; Published: 29-Jan-2009; DatasheetVersion: rev B, Feb-2003; PackageVersion: revAW, Oct-2008; PackageReference: CERDIP300-JD14; Publisher: Altium Limited; PackageDescription: 14-Lead Ceramic Dual In-Line (JD) - 300mil Body [CERDIP]; ComponentLink1Description: Manufacturer Link; ComponentLink1URL: http://www.microchip.com; ComponentLink2Description: Datasheet; ComponentLink2URL: http://ww1.microchip.com/downloads/en/DeviceDoc/21425b.pdf; ComponentLink3Description: Packaging Specification; ComponentLink3URL: http://ww1.microchip.com/downloads/en/PackagingSpec/00049AW.pdf
footprint CERDIP300-JD14 (DIP, 14-Leads, Row Spacing 7.62mm, Pitch 2.54mm, Body 19.3x6.7mm)
part A pins: 1 1A (in), 2 1B (in), 13 1Y (out)
part B pins: 3 2A (in), 4 2B (in), 12 2Y (out)
part C pins: 5 3A (in), 6 3B (in), 11 3Y (out)
part D pins: 8 4A (in), 9 4B (in), 10 4Y (out)
part E pins: 7 GND (power), 14 VDD (power)

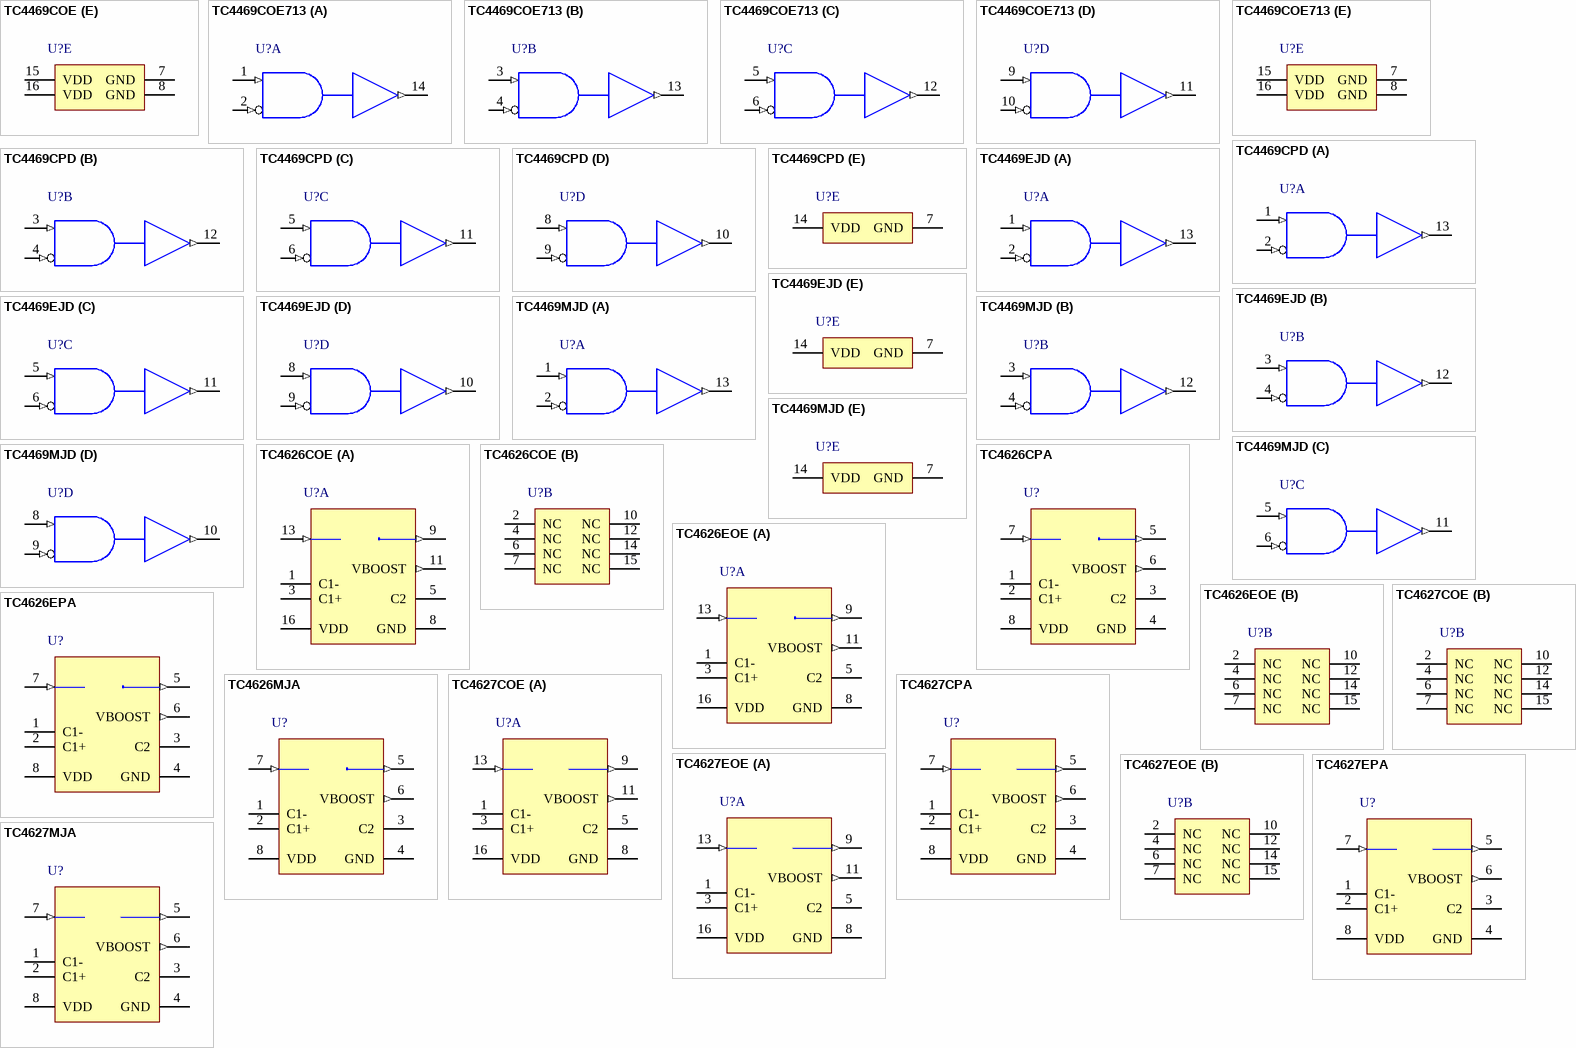
[diagram p28: symbols TC4469COE to TC4627MJA]

## TC4469COE
designator U?
1.2A Quad MOSFET Driver, AND/INV, Commercial Temperature; Published: 29-Jan-2009; DatasheetVersion: rev B, Feb-2003; PackageVersion: revAW, Oct-2008; PackageReference: SOIC-OE16; Publisher: Altium Limited; PackageDescription: 16-Lead Plastic Small Outline (OE) - Wide 7.50mm Body [SOIC]; Code_JEDEC: MS-013-AA; Code_IPC: SOIC127P1030-16; ComponentLink1Description: Manufacturer Link; ComponentLink1URL: http://www.microchip.com; ComponentLink2Description: Datasheet; ComponentLink2URL: http://ww1.microchip.com/downloads/en/DeviceDoc/21425b.pdf; ComponentLink3Description: Packaging Specification; ComponentLink3URL: http://ww1.microchip.com/downloads/en/PackagingSpec/00049AW.pdf
footprint SOIC-OE16_N (SOIC, 16-Leads, Body 10.3x7.5mm, Pitch 1.27mm, IPC Medium Density)
footprint SOIC-OE16_L (SOIC, 16-Leads, Body 10.3x7.5mm, Pitch 1.27mm, IPC High Density)
footprint SOIC-OE16_M (SOIC, 16-Leads, Body 10.3x7.5mm, Pitch 1.27mm, IPC Low Density)
part A pins: 1 1A (in), 2 1B (in), 14 1Y (out)
part B pins: 3 2A (in), 4 2B (in), 13 2Y (out)
part C pins: 5 3A (in), 6 3B (in), 12 3Y (out)
part D pins: 9 4A (in), 10 4B (in), 11 4Y (out)
part E pins: 7 GND (power), 8 GND (power), 15 VDD (power), 16 VDD (power)

## TC4469COE713
designator U?
1.2A Quad MOSFET Driver, AND/INV, Commercial Temperature, Tape and Reel; Published: 29-Jan-2009; DatasheetVersion: rev B, Feb-2003; PackageVersion: revAW, Oct-2008; PackageReference: SOIC-OE16; Publisher: Altium Limited; PackageDescription: 16-Lead Plastic Small Outline (OE) - Wide 7.50mm Body [SOIC]; Code_JEDEC: MS-013-AA; Code_IPC: SOIC127P1030-16; ComponentLink1Description: Manufacturer Link; ComponentLink1URL: http://www.microchip.com; ComponentLink2Description: Datasheet; ComponentLink2URL: http://ww1.microchip.com/downloads/en/DeviceDoc/21425b.pdf; ComponentLink3Description: Packaging Specification; ComponentLink3URL: http://ww1.microchip.com/downloads/en/PackagingSpec/00049AW.pdf
footprint SOIC-OE16_N (SOIC, 16-Leads, Body 10.3x7.5mm, Pitch 1.27mm, IPC Medium Density)
footprint SOIC-OE16_L (SOIC, 16-Leads, Body 10.3x7.5mm, Pitch 1.27mm, IPC High Density)
footprint SOIC-OE16_M (SOIC, 16-Leads, Body 10.3x7.5mm, Pitch 1.27mm, IPC Low Density)
part A pins: 1 1A (in), 2 1B (in), 14 1Y (out)
part B pins: 3 2A (in), 4 2B (in), 13 2Y (out)
part C pins: 5 3A (in), 6 3B (in), 12 3Y (out)
part D pins: 9 4A (in), 10 4B (in), 11 4Y (out)
part E pins: 7 GND (power), 8 GND (power), 15 VDD (power), 16 VDD (power)

## TC4469CPD
designator U?
1.2A Quad MOSFET Driver, AND/INV, Commercial Temperature; Published: 29-Jan-2009; DatasheetVersion: rev B, Feb-2003; PackageVersion: revAW, Oct-2008; PackageReference: PDIP300-PD14; Publisher: Altium Limited; PackageDescription: 14-Lead Plastic Dual In-Line (PD) - 300 mil Body [PDIP]; Code_JEDEC: MS-001-AA; ComponentLink1Description: Manufacturer Link; ComponentLink1URL: http://www.microchip.com; ComponentLink2Description: Datasheet; ComponentLink2URL: http://ww1.microchip.com/downloads/en/DeviceDoc/21425b.pdf; ComponentLink3Description: Packaging Specification; ComponentLink3URL: http://ww1.microchip.com/downloads/en/PackagingSpec/00049AW.pdf
footprint PDIP300-PD14 (DIP, 14-Leads, Row Spacing 7.62mm, Pitch 2.54mm, Body 19.2x6.6mm)
part A pins: 1 1A (in), 2 1B (in), 13 1Y (out)
part B pins: 3 2A (in), 4 2B (in), 12 2Y (out)
part C pins: 5 3A (in), 6 3B (in), 11 3Y (out)
part D pins: 8 4A (in), 9 4B (in), 10 4Y (out)
part E pins: 7 GND (power), 14 VDD (power)

## TC4469EJD
designator U?
1.2A Quad MOSFET Driver, AND/INV, Industrial Temperature; Published: 29-Jan-2009; DatasheetVersion: rev B, Feb-2003; PackageVersion: revAW, Oct-2008; PackageReference: CERDIP300-JD14; Publisher: Altium Limited; PackageDescription: 14-Lead Ceramic Dual In-Line (JD) - 300mil Body [CERDIP]; ComponentLink1Description: Manufacturer Link; ComponentLink1URL: http://www.microchip.com; ComponentLink2Description: Datasheet; ComponentLink2URL: http://ww1.microchip.com/downloads/en/DeviceDoc/21425b.pdf; ComponentLink3Description: Packaging Specification; ComponentLink3URL: http://ww1.microchip.com/downloads/en/PackagingSpec/00049AW.pdf
footprint CERDIP300-JD14 (DIP, 14-Leads, Row Spacing 7.62mm, Pitch 2.54mm, Body 19.3x6.7mm)
part A pins: 1 1A (in), 2 1B (in), 13 1Y (out)
part B pins: 3 2A (in), 4 2B (in), 12 2Y (out)
part C pins: 5 3A (in), 6 3B (in), 11 3Y (out)
part D pins: 8 4A (in), 9 4B (in), 10 4Y (out)
part E pins: 7 GND (power), 14 VDD (power)

## TC4469MJD
designator U?
1.2A Quad MOSFET Driver, AND/INV, -55C to +125C Temperature; Published: 29-Jan-2009; DatasheetVersion: rev B, Feb-2003; PackageVersion: revAW, Oct-2008; PackageReference: CERDIP300-JD14; Publisher: Altium Limited; PackageDescription: 14-Lead Ceramic Dual In-Line (JD) - 300mil Body [CERDIP]; ComponentLink1Description: Manufacturer Link; ComponentLink1URL: http://www.microchip.com; ComponentLink2Description: Datasheet; ComponentLink2URL: http://ww1.microchip.com/downloads/en/DeviceDoc/21425b.pdf; ComponentLink3Description: Packaging Specification; ComponentLink3URL: http://ww1.microchip.com/downloads/en/PackagingSpec/00049AW.pdf
footprint CERDIP300-JD14 (DIP, 14-Leads, Row Spacing 7.62mm, Pitch 2.54mm, Body 19.3x6.7mm)
part A pins: 1 1A (in), 2 1B (in), 13 1Y (out)
part B pins: 3 2A (in), 4 2B (in), 12 2Y (out)
part C pins: 5 3A (in), 6 3B (in), 11 3Y (out)
part D pins: 8 4A (in), 9 4B (in), 10 4Y (out)
part E pins: 7 GND (power), 14 VDD (power)